# EAGLE library part FABO_BRICK_I2C_SMARTHOME (library FaBo-Template)
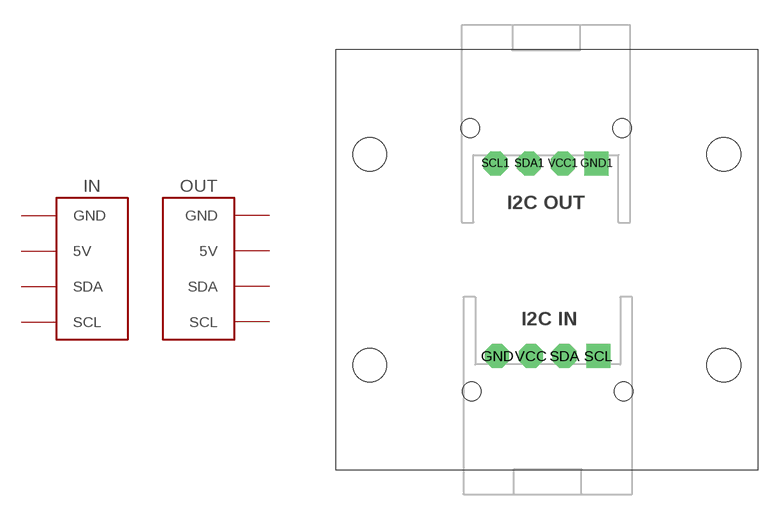
[diagram p11: symbol with the pads of FABO_BRICK_I2C_SMARTHOME; footprint FABO_BRICK_I2C_SMARTHOME]

Designator prefix J

## FABO_BRICK_I2C_SMARTHOME  [FABO_BRICK_I2C_SMARTHOME]
GND  GND
GND1  GND
SCL  SCL
SCL1  SCL
SDA  SDA
SDA1  SDA
VCC  5V
VCC1  5V

## Footprint FABO_BRICK_I2C_SMARTHOME (pad centres in mm)
drill 0.8 pad 1.422 octagon: GND -2.95,-5.71; SCL1 -3.05,5.71; SDA 1.05,-5.71; SDA1 -1.05,5.71; VCC -0.95,-5.71; VCC1 0.95,5.71
drill 0.8 pad 1.422 square: GND1 2.95,5.71; SCL 3.05,-5.71
hole 2 at -10.5,6.25
hole 1.1 at -4.45,-7.81
hole 1.1 at 4.55,-7.81
hole 2 at -10.5,-6.25
hole 2 at 10.5,6.25
hole 2 at 10.5,-6.25
hole 1.1 at 4.45,7.81
hole 1.1 at -4.55,7.81